# Altium integrated library WATECH IO HIGH BOARD.IntLib: 24 symbols
Pins are listed as number, name and electrical type; pins without a type are passive.

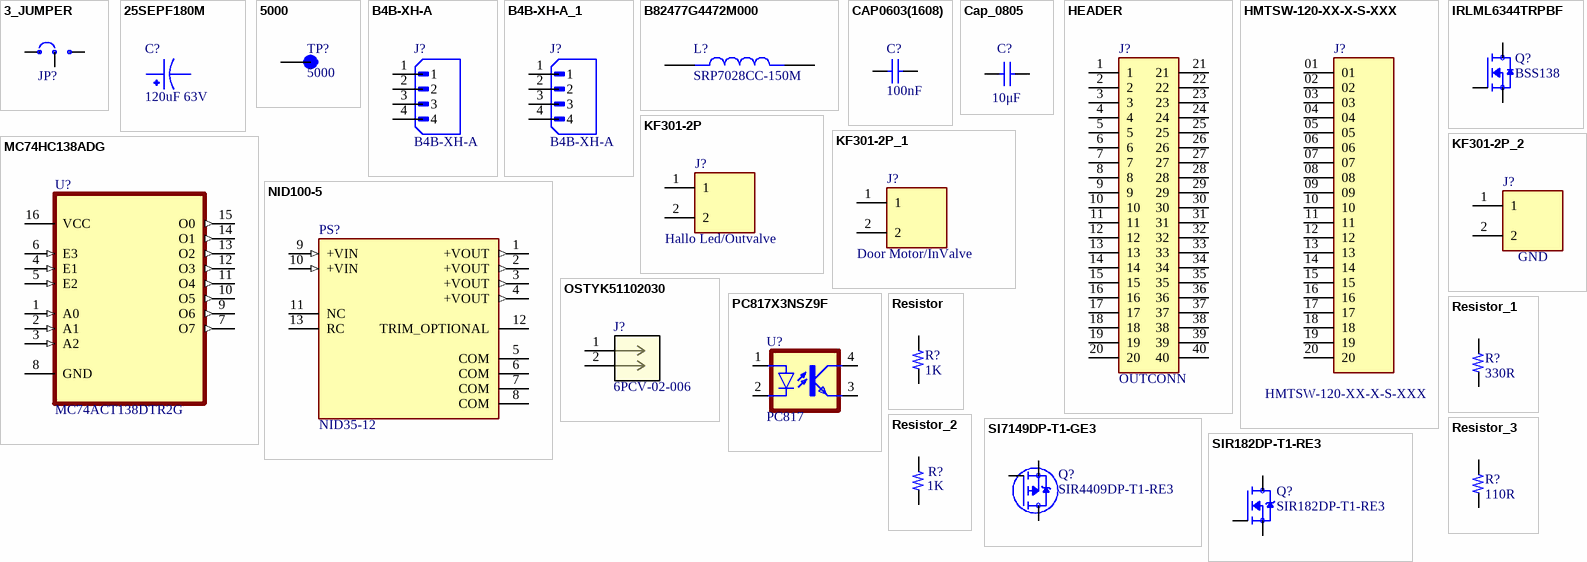
[diagram p0: symbols 3_JUMPER to SIR182DP-T1-RE3]

## 3_JUMPER
designator JP?, comment JUMPER  (value not drawn)
Connector Header Through Hole 3 position 0.100" (2.54mm); Manufacturer Part Number: 61300311121; Manufacturer: Würth Elektronik
footprint WURTH_61300311121
pins: 1, 2, 3

## 25SEPF180M
designator C?, comment 120uF 63V
eCAP_GeneralPurpose_Panasonic_120uF-63V_pn-; Manufacturer Part Number: EEUFR1J121L; SnapEDA_Link: https://www.snapeda.com/parts/25SEPF180M/Panasonic/view-part/?ref=snap; Check_prices: https://www.snapeda.com/parts/25SEPF180M/Panasonic/view-part/?ref=eda; Availability: In Stock; Value: 120uF 63V; Manufacturer: Panasonic; Price: None; Package: RADIAL-2 Panasonic; Purchase-URL: https://pricing.snapeda.com/search/part/25SEPF180M/?ref=eda
footprint CAPPRD350W60D800H1200
footprint CAPPRD350W60D800H1200
footprint CAPPRD500W60D1000H1800
pins: 1, 2

## 5000
designator TP?
Test Point Miniature THM H .300 Nylon 46 Insulated Red PhosBronze/Silver | Keystone Electronics 5000; SnapEDA_Link: https://www.snapeda.com/parts/5000/Keystone/view-part/?ref=snap; Package: Test Point Keystone Electronics; Value: *; MF: Keystone Electronics; MP: 5000; Check_prices: https://www.snapeda.com/parts/5000/Keystone/view-part/?ref=eda
footprint KEYSTONE_5000
pins: TP

## B4B-XH-A
designator J?
"Connector Header Through Hole 4 position 0.098"" (2.50mm) / "; Manufacturer Part Number: B4B-EH-A; Manufacturer: JST Sales America Inc.
footprint TE_640453-4
footprint JST_B4B-EH-A
pins: 1, 2, 3, 4

## B4B-XH-A_1
designator J?, comment B4B-XH-A
Connector Header Through Hole 4 position 0.098 (2.50mm); Manufacturer Part Number: WAFER-HA254Z-4A; Manufacturer: HANBO
footprint TE_640453-4
footprint JST_B4B-EH-A
pins: 1, 2, 3, 4

## B82477G4472M000
designator L?, comment SRP7028CC-150M
150M-Power Inductor (SMD), 15 µH, 3 A, Shielded, 4 A, SRP7028CC Series; Manufacturer: Bourns; Price: None; Manufacturer Part Number: SRP7028CC-150M; SnapEDA_Link: https://www.snapeda.com/parts/B82477G4472M000/EPCOS/view-part/?ref=snap; Package: NON STANDARD-2 EPCOS; Value: *; Check_prices: https://www.snapeda.com/parts/B82477G4472M000/EPCOS/view-part/?ref=eda; Availability: In Stock; Purchase-URL: https://pricing.snapeda.com/search/part/B82477G4472M000/?ref=eda
footprint IND_B82477G4472M000
pins: 1, 2

## CAP0603(1608)
designator C?, comment 100nF
CL05B104KB5NNNC-Samsung-50V 100nF X7R ±10% 0402 Multilayer Ceramic Capacitors MLCC – SMD/SMT ROHS; Value: 100nF; Manufacturer: Samsung; Manufacturer Part Number: CL05B104KB5NNNC
footprint RES_ERJU02F5102X
pins: 1, 2

## Cap_0805
designator C?, comment 10μF
CAP CER 10UF 50V X7R 1210; Manufacturer Part Number: CL32B106KBJNNNE; Manufacturer: Samsung Electro-Mechanics; Type: SMD; Tolerance: +/-10%; Temperature Coefficient: X5R; Operating Temperature: -55°C ~ 85°C; Package: 1210; Value: 10uF; Voltage Rating: 50v
footprint CAPC2012X88N
footprint 1210
pins: 1, 2

## HEADER
designator J?, comment OUTCONN
Conn Unshrouded Header HDR 2 POS 2.54mm Solder RA Thru-Hole; Manufacturer: Würth Elektronik; Manufacturer Part Number: 61304021821; Geometry.Height: 2.881mm; Mouser Part Number: 737-PH1RB-02-UA; Mouser Price/Stock: https://www.mouser.co.uk/ProductDetail/Adam-Tech/PH1RB-02-UA?qs=HoCaDK9Nz5fILNAxadVeKQ%3D%3D; Datasheet Link: https://app.adam-tech.com/products/download/data_sheet/201281/ph1rb-xx-ua-data-sheet.pdf
footprint 61304021821
pins: 1, 2, 3, 4, 5, 6, 7, 8, 9, 10, 11, 12, 13, 14, 15, 16, 17, 18, 19, 20, 21, 22, 23, 24, 25, 26, 27, 28, 29, 30, 31, 32, 33, 34, 35, 36, 37, 38, 39, 40

## HMTSW-120-XX-X-S-XXX
designator J?
Connector Header Through Hole 20 position 0.100 (2.54mm); Manufacturer Part Number: 61302011821; Manufacturer: Würth Elektronik
footprint SAMTEC_HMTSW-120-XX-X-S-XXX
pins: 01, 02, 03, 04, 05, 06, 07, 08, 09, 10, 11, 12, 13, 14, 15, 16, 17, 18, 19, 20

## IRLML6344TRPBF
designator Q?, comment BSS138
N-Channel 60 V 60A (Tc) 69.4W (Tc) Surface Mount PowerPAKÂ® SO-8; Manufacturer: ONSEMI; Package: None; Price: None; Value: *; Manufacturer Part Number: BSS138; Availability: Unavailable
footprint TRANS_IRLML6344TRPBF
pins: 1 G, 2 S, 3 D

## KF301-2P
designator J?, comment Hallo Led/Outvalve
2 Pin Terminal Block 5mm Pitch; Manufacturer: MULTICOMP; Manufacturer Part Number: MA522-500M02
footprint HANDSON_KF301-2P
pins: 1, 2

## KF301-2P_1
designator J?, comment Door Motor/InValve
2 Pin Terminal Block 5mm Pitch; Manufacturer: MULTICOMP; Manufacturer Part Number: MA522-500M02
footprint HANDSON_KF301-2P
footprint PHOENIX_1710072
footprint HANDSON_KF301-2P
pins: 1, 2

## KF301-2P_2
designator J?, comment GND
2 Pin Terminal Block 5mm Pitch; Manufacturer: MULTICOMP; Manufacturer Part Number: MA522-500M02
footprint HANDSON_KF301-2P
pins: 1, 2

## MC74HC138ADG
designator U?, comment MC74ACT138DTR2G
MC74ACT138DTR2G-ON SEMICONDUCTOR-24mA 4.5V~5.5V 24mA TSSOP-16-4.3mm Signal Switches, Multiplexers, Decoders ROHS; Manufacturer: ON Semiconductor; Package: None; Price: None; Value: *; SnapEDA_Link: https://www.snapeda.com/parts/MC74HC138ADG./Onsemi/view-part/?ref=snap; Manufacturer Part Number: MC74ACT138DTR2G; Availability: Not in stock; Check_prices: https://www.snapeda.com/parts/MC74HC138ADG./Onsemi/view-part/?ref=eda
footprint TSSOP-16_ONS
pins: 1 A0 (in), 2 A1 (in), 3 A2 (in), 4 E1 (in), 5 E2 (in), 6 E3 (in), 7 O7 (out), 8 GND, 9 O6 (out), 10 O5 (out), 11 O4 (out), 12 O3 (out), 13 O2 (out), 14 O1 (out), 15 O0 (out), 16 VCC (power)

## NID100-5
designator PS?, comment NID35-12
Non-Isolated PoL Module DC DC Converter 1 Output 12V 2.9A 20V - 53V Input; Manufacturer: MEAN WELL USA Inc.; Manufacturer Part Number: NID35-12
footprint CONV_NID100-5
pins: 1 +VOUT (out), 2 +VOUT (out), 3 +VOUT (out), 4 +VOUT (out), 5 COM, 6 COM, 7 COM, 8 COM, 9 +VIN (in), 10 +VIN (in), 11 NC, 12 TRIM_OPTIONAL, 13 RC

## OSTYK51102030
designator J?, comment 6PCV-02-006
6PCV-02-006.-BUCHANAN – TE CONNECTIVITY-6PCV-02-006.-TERMINAL BLOCK, BARRIER, 2 POSITION, 22-12AWG; Pitch: 9.5mm; Manufacturer: BUCHANAN – TE CONNECTIVITY; Manufacturer Part Number: 6PCV-02-006
footprint CONN2_1102030_OST
pins: 1, 2

## PC817X3NSZ9F
designator U?, comment PC817
Optoisolator Transistor Output 5000Vrms 1 Channel 4-DIP; Manufacturer: Sharp Microelectronics; SnapEDA_Link: https://www.snapeda.com/parts/PC817X3NSZ9F/Sharp+Microelectronics/view-part/?ref=snap; Package: DIP-4 Sharp Microelectronics; Value: *; Manufacturer Part Number: PC817; Check_prices: https://www.snapeda.com/parts/PC817X3NSZ9F/Sharp+Microelectronics/view-part/?ref=eda
footprint DIL04
footprint SOP254P975X460-4N
pins: 1 A, 2 C, 3 EMIT, 4 COL

## Resistor
designator R?, comment 1K
SMD Chip Resistor,1 kOhms ±1% 0.063W, 1/16W  0402 Metal Film (Thin Film); Manufacturer: YAGEO; Manufacturer Part Number: RC0402FR-071KL; Value: 1K; Tolerance: ±1 %; Temperature Coefficient: *; Operating Temperature: -55°C ~ 155°C; Type: SMD; Package: 0402; Power Rating: *
footprint RESC1608X55N
footprint RES_ERJU02F5102X
footprint RESC1608X55N
footprint RESC1608X55N
pins: 1, 2

## Resistor_1
designator R?, comment 330R
RES, 330R, 1%, 0.0625W, THICK FILM, 0402; Manufacturer: YAGEO; Manufacturer Part Number: RC0402FR-07330RL; Value: 330R; Tolerance: ±1 %; Temperature Coefficient: *; Operating Temperature: -55°C ~ 155°C; Type: SMD; Package: 0402; Power Rating: *
footprint RES_ERJU02F5102X
pins: 1, 2

## Resistor_2
designator R?, comment 1K
SMD Chip Resistor,1 kOhms ±1% 0.063W, 1/16W  0402 Metal Film (Thin Film); Manufacturer: YAGEO; Manufacturer Part Number: RC0402FR-071KL; Value: 1K; Tolerance: ±1 %; Temperature Coefficient: *; Operating Temperature: -55°C ~ 155°C; Type: SMD; Package: 0402; Power Rating: *
footprint RES_ERJU02F5102X
pins: 1, 2

## Resistor_3
designator R?, comment 110R
SMD Chip Resistor '100mW  75V ±100ppm/℃ ±1% 110Ω 0603 Thick Film Resistors; Manufacturer: YAGEO; Manufacturer Part Number: RC0603FR-07110RL; Value: 110R; Tolerance: ±1 %; Temperature Coefficient: *; Operating Temperature: -55°C ~ 155°C; Type: SMD; Package: 0402; Power Rating: *
footprint RESC1608X55N
pins: 1, 2

## SI7149DP-T1-GE3
designator Q?, comment SIR4409DP-T1-RE3
Power MOSFET, P Channel, 40 V, 60.6 A, 9000 µohm, PowerPAK SO-8S, Surface Mount; Manufacturer: Vishay; SnapEDA_Link: https://www.snapeda.com/parts/SI7149DP-T1-GE3/Vishay+Siliconix/view-part/?ref=snap; Package: PowerPAK SO-8 Vishay; Value: *; Manufacturer Part Number: SIR4409DP-T1-RE3; Check_prices: https://www.snapeda.com/parts/SI7149DP-T1-GE3/Vishay+Siliconix/view-part/?ref=eda
footprint POWERPAK_SO-8
pins: 1 S, 2 S, 3 S, 4 G, 5 D, 6 D, 7 D, 8 D, 9 D

## SIR182DP-T1-RE3
designator Q?
N-Channel 60 V 60A (Tc) 69.4W (Tc) Surface Mount PowerPAKÂ® SO-8; Manufacturer: VISHAY; SnapEDA_Link: https://www.snapeda.com/parts/SIR182DP-T1-RE3/Vishay+Siliconix/view-part/?ref=snap; Package: SO-8 Vishay Siliconix; Value: *; Manufacturer Part Number: SIR182DP-T1-RE3; Check_prices: https://www.snapeda.com/parts/SIR182DP-T1-RE3/Vishay+Siliconix/view-part/?ref=eda
footprint TRANS_SIR182DP-T1-RE3
pins: 1 S, 2 S, 3 S, 4 G, 5 D, 6 D, 7 D, 8 D, 9 D